# EAGLE library part WT11 (library MyParts)
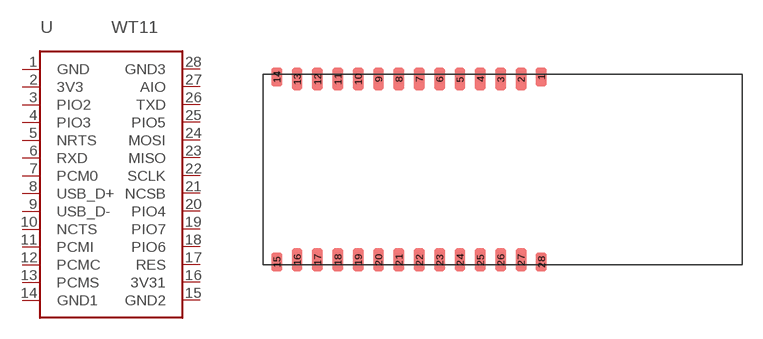
[diagram p8: symbol with the pads of WT11; footprint WT11]

Designator prefix -

## WT11  [WT11]
1  GND
2  3V3
3  PIO2
4  PIO3
5  NRTS
6  RXD
7  PCM0
8  USB_D+
9  USB_D-
10  NCTS
11  PCMI
12  PCMC
13  PCMS
14  GND1
15  GND2
16  3V31
17  RES
18  PIO6
19  PIO7
20  PIO4
21  NCSB
22  SCLK
23  MISO
24  MOSI
25  PIO5
26  TXD
27  AIO
28  GND3

## Footprint WT11 (pad centres in mm)
smd 0.8 x 1.4: 1 2.85,6.8; 14 -16.65,6.8; 15 -16.65,-6.8; 28 2.85,-6.8
smd 0.8 x 1.7: 2 1.35,6.65; 3 -0.15,6.65; 4 -1.65,6.65; 5 -3.15,6.65; 6 -4.65,6.65; 7 -6.15,6.65; 8 -7.65,6.65; 9 -9.15,6.65; 10 -10.65,6.65; 11 -12.15,6.65; 12 -13.65,6.65; 13 -15.15,6.65; 16 -15.15,-6.65; 17 -13.65,-6.65; 18 -12.15,-6.65; 19 -10.65,-6.65; 20 -9.15,-6.65; 21 -7.65,-6.65; 22 -6.15,-6.65; 23 -4.65,-6.65; 24 -3.15,-6.65; 25 -1.65,-6.65; 26 -0.15,-6.65; 27 1.35,-6.65